# EAGLE library part DDR-SMBUS-TAPPING (library dimm)
SMBUS tapping at 184 Pin DDR SDRAM Double Inline Memory Module half of JEDEC MO-206a
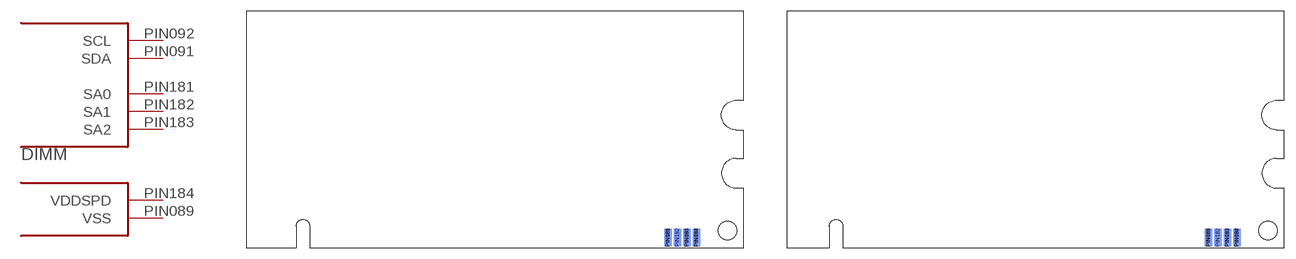
[diagram p5: symbol with the pads of HALF-184PIN-SDRAM-XB; footprints HALF-184PIN-SDRAM-XB, HALF-184PIN-SDRAM-XA]

Designator prefix DIMM; gates =I2C-3ADD PWR=VCC-GND

## DDR-SMBUS-TAPPING1,8V  [HALF-184PIN-SDRAM-XB]
PIN089  PWR:VSS  pwr
PIN091  :SDA
PIN092  :SCL
PIN181  :SA0  in
PIN182  :SA1  in
PIN183  :SA2  in
PIN184  PWR:VDDSPD  pwr

## DDR-SMBUS-TAPPING2,5V  [HALF-184PIN-SDRAM-XA]
Pads as for HALF-184PIN-SDRAM-XB

## Footprint HALF-184PIN-SDRAM-XB (pad centres in mm)
SMBUS tapping at 184 Pin 1.8V DDR SDRAM Double Inline Memory Module half of JEDEC MO-206a
smd 1 x 2.3: PIN089 56.515,1.35; PIN091 59.055,1.35; PIN092 60.325,1.35
smd 1 x 2.3 bottom: PIN181 56.515,1.35; PIN182 57.785,1.35; PIN183 59.055,1.35; PIN184 60.325,1.35

## Footprint HALF-184PIN-SDRAM-XA (pad centres in mm)
SMBUS tapping at 184 Pin 2.5V DDR SDRAM Double Inline Memory Module half of JEDEC MO-206a
smd 1 x 2.3: PIN089 56.515,1.35; PIN091 59.055,1.35; PIN092 60.325,1.35
smd 1 x 2.3 bottom: PIN181 56.515,1.35; PIN182 57.785,1.35; PIN183 59.055,1.35; PIN184 60.325,1.35